# Altium schematic symbol library BCX53-16.Schlib: 1 symbol
Pins are listed as number, name and electrical type; pins without a type are passive.

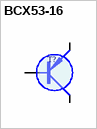
[diagram p0: symbol BCX53-16]

## BCX53-16
designator T?
SOT89     80V 1A 145MHz 15p (BCX56-16)
pins: 1 B, 2 C (oc), 3 E (oe)
1 alternate drawing of the same symbol